# EAGLE library part HEADER-HM (library vieng)
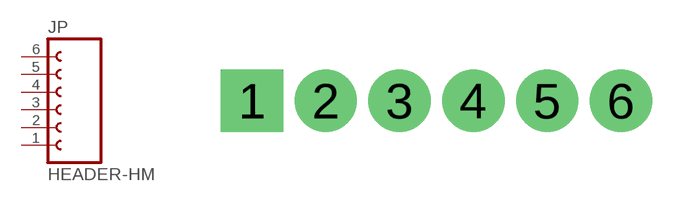
[diagram p1: symbol with the pads of HEADER-HM; footprint HEADER-HM]

Designator prefix JP

## HEADER-HM  [HEADER-HM]
1  1  pas
2  2  pas
3  3  pas
4  4  pas
5  5  pas
6  6  pas

## Footprint HEADER-HM (pad centres in mm)
drill 1.4 square: 1 -6.248,0
drill 1.4 round: 2 -3.759,0; 3 -1.27,0; 4 1.219,0; 5 3.708,0; 6 6.198,0